# Altium footprint library MCP73831-2ACI_MC.PcbLib: 1 footprints
Each footprint in its own frame and in the unit in brackets; x right, y up, seen from the top. Pads: shape width x height; smd on the part's side, far side on the other; paste and mask are expansions set on the pad; w line width, h text height; cw(c..) or ccw(c..) is an arc to the next point about the centre after c.
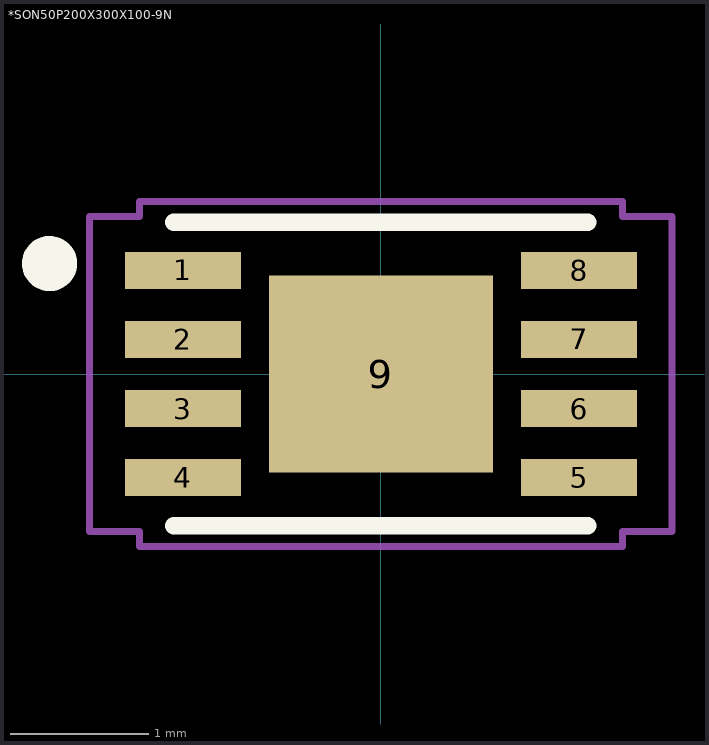
[diagram p0: the footprint, top view; thin cyan lines are the x and y axes]

## *SON50P200X300X100-9N [mm]
pads (9):
  rect 0.84x0.27 smd: 1(-1.435,0.75) 2(-1.435,0.25) 3(-1.435,-0.25) 4(-1.435,-0.75) 5(1.435,-0.75) 6(1.435,-0.25) 7(1.435,0.25) 8(1.435,0.75)
  rect 1.625x1.425 smd: 9(0,0)
Top Overlay:
  circle w0.2: c-2.4,0.8 r0.1
  lines w0.127: -1.5,-1.099 1.5,-1.099 ; -1.5,1.099 1.5,1.099
Top Paste:
  region: -0.665,0.49 -0.075,0.49 -0.075,-0.49 -0.665,-0.49
  region: 0.075,0.49 0.665,0.49 0.665,-0.49 0.075,-0.49
Internal Plane 13:
  circle w0.2: c-2.4,0.8 r0.1
  circle w0.2: c-2.4,0.8 r0.1
  lines w0.127: -1.5,-1 -1.5,1 ; -1.5,-1 1.5,-1 ; -1.5,-1 -1.5,1 ; -1.5,-1 1.5,-1 ; -1.5,1 1.5,1 ; -1.5,1 1.5,1 ; 1.5,-1 1.5,1 ; 1.5,-1 1.5,1
Mechanical 16:
  lines w0.05: -2.11,-1.14 -1.75,-1.14 -1.75,-1.25 1.75,-1.25 1.75,-1.14 2.11,-1.14 2.11,1.14 1.75,1.14 1.75,1.25 -1.75,1.25 -1.75,1.14 -2.11,1.14 -2.11,-1.14